# Altium schematic symbol library 光电器件.SchLib: 3 symbols
Pins are listed as number, name and electrical type; pins without a type are passive.

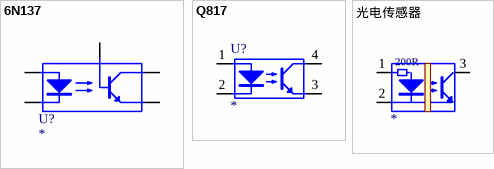
[diagram p0: symbols 6N137 to 光电传感器]

## 6N137
designator U?
Opto Isolator
simulation model 6N137 (SUBCKT)
pins: 1 LED Anode, 2 LED Cathode, 3 empty (hiz) hidden to empty, 4 Emitter, 5 Collector, 6 Base

## Q817
designator U?
pins: 1 LED Anode, 2 LED Cathode, 3 Emitter, 4 Collector

## 光电传感器
designator ?
pins: 1 LED Anode, 2 LED Cathode, 3 Emitter
text: 200R